# Altium schematic symbol library Connectors Interface USB.SchLib: 2 symbols
Pins are listed as number, name and electrical type; pins without a type are passive.

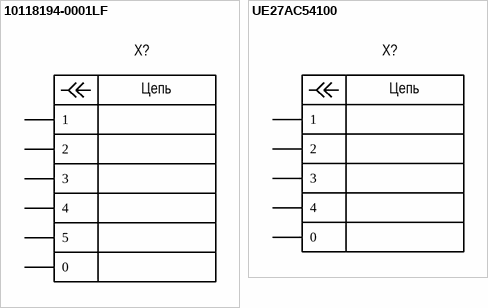
[diagram p0: symbols 10118194-0001LF to UE27AC54100]

## 10118194-0001LF
designator X?  (value not drawn)  (net tie)
Connector Interface USB Micro RECPT 5P RA; Manufacturer: Amphenol; Group: Mechanics; Pitch: 0.25mm; Positions: 5; Rows: 1; Voltage rating: 5V; Current rating: 1.8A; Gender: Receptacle; Dimension: 8.05mm x 5.53mm; Operating temperature: -30°C +80°C; Mounting type: Surface mount, through hole, right angle; Package: USB-micro; Part name: 10118194-0001LF; Height: 2.35mm; Component: Connector interface; System: Connector
footprint USB-MICRO-V1 N (USB micro type B SMT N)
pins: 0, 1, 2, 3, 4, 5
text: Цепь

## UE27AC54100
designator X?  (value not drawn)  (net tie)
Connector Interface USB Type-A RECPT 4P RA; Manufacturer: Amphenol; Group: Mechanics; Pitch: 2.50mm; Positions: 4; Rows: 1; Voltage rating: 5V; Current rating: 1A; Gender: Receptacle; Dimension: 14.50mm x 13.85mm; Operating temperature: -40°C +85°C; Mounting type: Through hole, right angle; Package: USB-A; Part name: UE27AC54100; Height: 6.90mm; Component: Connector interface; System: Connector
footprint USB-A-V1 N
pins: 0, 1, 2, 3, 4
text: Цепь